# Altium schematic symbol library TNY267PN.SchLib: 1 symbol
Pins are listed as number, name and electrical type; pins without a type are passive.

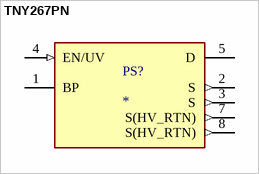
[diagram p0: symbol TNY267PN]

## TNY267PN
designator PS?
MP: TNY267PN; Package: None; Price: None; Value: *; Availability: Unavailable
footprint CONV_TNY267PN
pins: 1 BP, 2 S (out), 3 S (out), 4 EN/UV (in), 5 D, 7 S(HV_RTN) (out), 8 S(HV_RTN) (out)